# Altium integrated library Actel ACT 2.IntLib: 111 symbols (part 2 of 7)
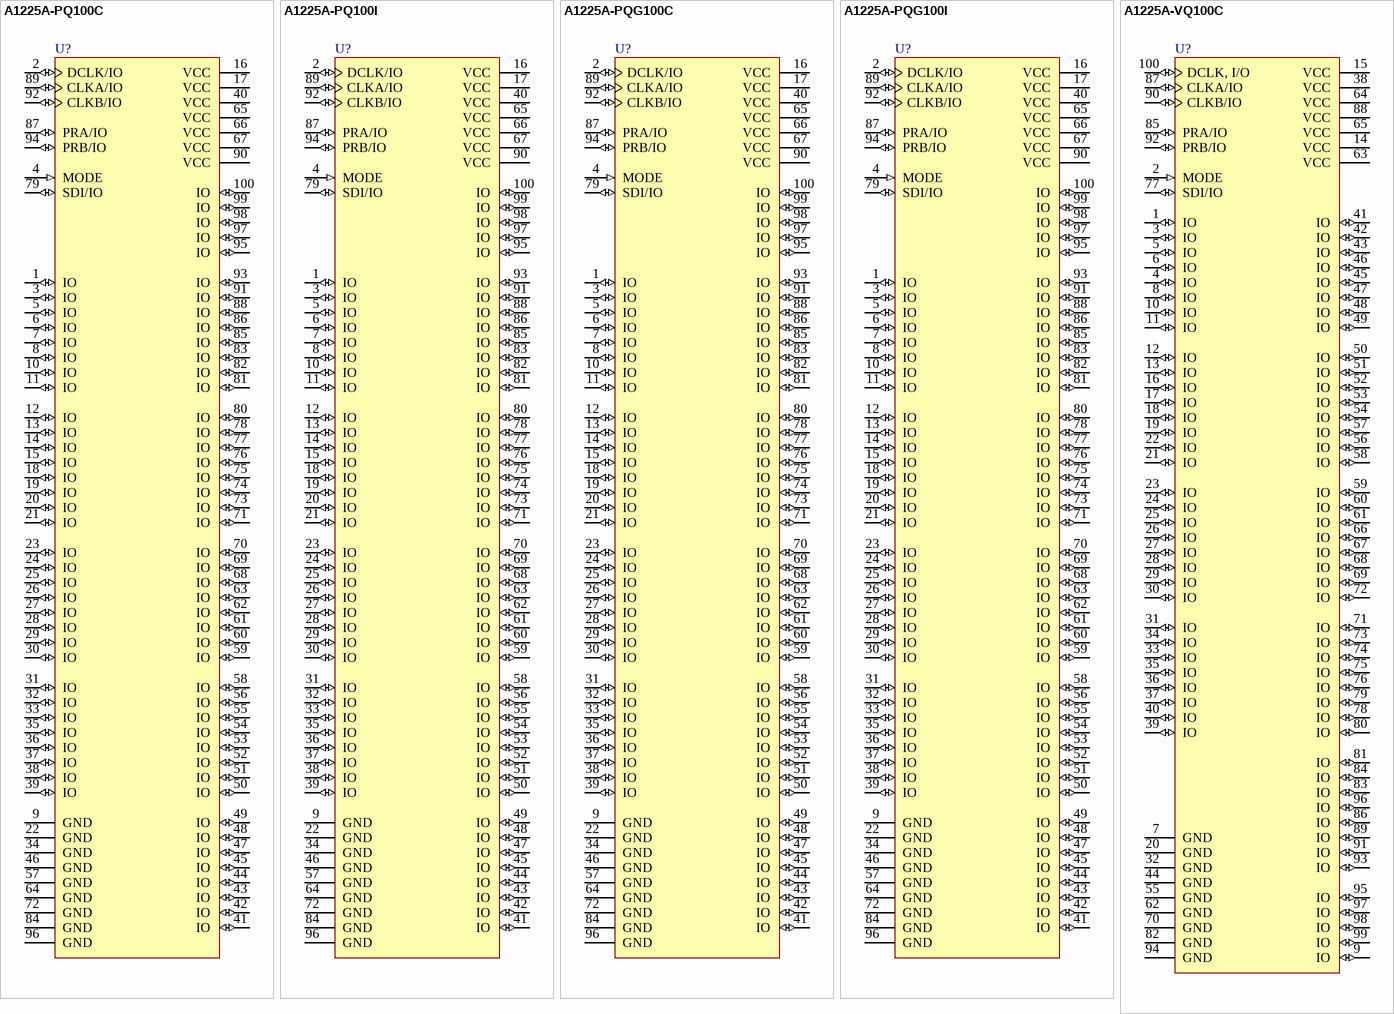
[diagram p64: symbols A1225A-PQ100C to A1225A-VQ100C]

## A1225A-PQ100I
designator U?
ACT 2 Series 5V FPGA, 83 User I/Os, 100 pin PQFP, Standard Speed Grade, Industrial Grade; Published: 24-Nov-2000; LatestRevisionDate: 13-Apr-2006; LatestRevisionNote: IPC-7351 Footprint Added.; DatasheetVersion: v4.0.1, Dec-2000; PackageVersion: ver11.2, Nov-2009; PackageReference: PQ100; Publisher: Altium Limited; PackageDescription: 100-Pin Plastic Quad Flat Pack Rectangular Package (PQ100); Code_JEDEC: MS-022-GC-1; Code_IPC: QFP65P1720X2320-100; ComponentLink1Description: ACT 2 DataSheet; ComponentLink1URL: http://www.actel.com/documents/ACT2_DS.pdf; ComponentLink2Description: Package Mechanical Drawings; ComponentLink2URL: http://www.actel.com/documents/PckgMechDrwngs.pdf; ComponentLink3Description: ACT Documents; ComponentLink3URL: http://www.actel.com/products/legacy/default.aspx#docs; ComponentLink4Description: Actel.com Home; ComponentLink4URL: http://www.actel.com/
footprint PQ100_N (QFP, 100-Leads, Body 20x14mm, Pitch 0.65mm, IPC Medium Density)
footprint PQ100_L (QFP, 100-Leads, Body 20x14mm, Pitch 0.65mm, IPC High Density)
footprint PQ100_M (QFP, 100-Leads, Body 20x14mm, Pitch 0.65mm, IPC Low Density)
pins: 1 IO (io), 2 DCLK/IO (io), 3 IO (io), 4 MODE (in), 5 IO (io), 6 IO (io), 7 IO (io), 8 IO (io), 9 GND (power), 10 IO (io), 11 IO (io), 12 IO (io), 13 IO (io), 14 IO (io), 15 IO (io), 16 VCC (power), 17 VCC (power), 18 IO (io), 19 IO (io), 20 IO (io), 21 IO (io), 22 GND (power), 23 IO (io), 24 IO (io), 25 IO (io), 26 IO (io), 27 IO (io), 28 IO (io), 29 IO (io), 30 IO (io), 31 IO (io), 32 IO (io), 33 IO (io), 34 GND (power), 35 IO (io), 36 IO (io), 37 IO (io), 38 IO (io), 39 IO (io), 40 VCC (power), 41 IO (io), 42 IO (io), 43 IO (io), 44 IO (io), 45 IO (io), 46 GND (power), 47 IO (io), 48 IO (io), 49 IO (io), 50 IO (io), 51 IO (io), 52 IO (io), 53 IO (io), 54 IO (io), 55 IO (io), 56 IO (io), 57 GND (power), 58 IO (io), 59 IO (io), 60 IO (io), 61 IO (io), 62 IO (io), 63 IO (io), 64 GND (power), 65 VCC (power), 66 VCC (power), 67 VCC (power), 68 IO (io), 69 IO (io), 70 IO (io), 71 IO (io), 72 GND (power), 73 IO (io), 74 IO (io), 75 IO (io), 76 IO (io), 77 IO (io), 78 IO (io), 79 SDI/IO (io), 80 IO (io), 81 IO (io), 82 IO (io), 83 IO (io), 84 GND (power), 85 IO (io), 86 IO (io), 87 PRA/IO (io), 88 IO (io), 89 CLKA/IO (io), 90 VCC (power), 91 IO (io), 92 CLKB/IO (io), 93 IO (io), 94 PRB/IO (io), 95 IO (io), 96 GND (power), 97 IO (io), 98 IO (io), 99 IO (io), 100 IO (io)

## A1225A-PQG100C
designator U?
ACT 2 Series 5V FPGA, 83 User I/Os, 100 pin PQFP, Standard Speed Grade, Commercial Grade, Pb-Free; Published: 11-Dec-2009; DatasheetVersion: v4.0.1, Dec-2000; PackageVersion: ver11.2, Nov-2009; PackageReference: PQ100; Publisher: Altium Limited; PackageDescription: 100-Pin Plastic Quad Flat Pack Rectangular Package (PQ100); Code_JEDEC: MS-022-GC-1; Code_IPC: QFP65P1720X2320-100; ComponentLink1Description: ACT 2 DataSheet; ComponentLink1URL: http://www.actel.com/documents/ACT2_DS.pdf; ComponentLink2Description: Package Mechanical Drawings; ComponentLink2URL: http://www.actel.com/documents/PckgMechDrwngs.pdf; ComponentLink3Description: ACT Documents; ComponentLink3URL: http://www.actel.com/products/legacy/default.aspx#docs; ComponentLink4Description: Actel.com Home; ComponentLink4URL: http://www.actel.com/
footprint PQ100_N (QFP, 100-Leads, Body 20x14mm, Pitch 0.65mm, IPC Medium Density)
footprint PQ100_L (QFP, 100-Leads, Body 20x14mm, Pitch 0.65mm, IPC High Density)
footprint PQ100_M (QFP, 100-Leads, Body 20x14mm, Pitch 0.65mm, IPC Low Density)
pins: 1 IO (io), 2 DCLK/IO (io), 3 IO (io), 4 MODE (in), 5 IO (io), 6 IO (io), 7 IO (io), 8 IO (io), 9 GND (power), 10 IO (io), 11 IO (io), 12 IO (io), 13 IO (io), 14 IO (io), 15 IO (io), 16 VCC (power), 17 VCC (power), 18 IO (io), 19 IO (io), 20 IO (io), 21 IO (io), 22 GND (power), 23 IO (io), 24 IO (io), 25 IO (io), 26 IO (io), 27 IO (io), 28 IO (io), 29 IO (io), 30 IO (io), 31 IO (io), 32 IO (io), 33 IO (io), 34 GND (power), 35 IO (io), 36 IO (io), 37 IO (io), 38 IO (io), 39 IO (io), 40 VCC (power), 41 IO (io), 42 IO (io), 43 IO (io), 44 IO (io), 45 IO (io), 46 GND (power), 47 IO (io), 48 IO (io), 49 IO (io), 50 IO (io), 51 IO (io), 52 IO (io), 53 IO (io), 54 IO (io), 55 IO (io), 56 IO (io), 57 GND (power), 58 IO (io), 59 IO (io), 60 IO (io), 61 IO (io), 62 IO (io), 63 IO (io), 64 GND (power), 65 VCC (power), 66 VCC (power), 67 VCC (power), 68 IO (io), 69 IO (io), 70 IO (io), 71 IO (io), 72 GND (power), 73 IO (io), 74 IO (io), 75 IO (io), 76 IO (io), 77 IO (io), 78 IO (io), 79 SDI/IO (io), 80 IO (io), 81 IO (io), 82 IO (io), 83 IO (io), 84 GND (power), 85 IO (io), 86 IO (io), 87 PRA/IO (io), 88 IO (io), 89 CLKA/IO (io), 90 VCC (power), 91 IO (io), 92 CLKB/IO (io), 93 IO (io), 94 PRB/IO (io), 95 IO (io), 96 GND (power), 97 IO (io), 98 IO (io), 99 IO (io), 100 IO (io)

## A1225A-PQG100I
designator U?
ACT 2 Series 5V FPGA, 83 User I/Os, 100 pin PQFP, Standard Speed Grade, Industrial Grade, Pb-Free; Published: 11-Dec-2009; DatasheetVersion: v4.0.1, Dec-2000; PackageVersion: ver11.2, Nov-2009; PackageReference: PQ100; Publisher: Altium Limited; PackageDescription: 100-Pin Plastic Quad Flat Pack Rectangular Package (PQ100); Code_JEDEC: MS-022-GC-1; Code_IPC: QFP65P1720X2320-100; ComponentLink1Description: ACT 2 DataSheet; ComponentLink1URL: http://www.actel.com/documents/ACT2_DS.pdf; ComponentLink2Description: Package Mechanical Drawings; ComponentLink2URL: http://www.actel.com/documents/PckgMechDrwngs.pdf; ComponentLink3Description: ACT Documents; ComponentLink3URL: http://www.actel.com/products/legacy/default.aspx#docs; ComponentLink4Description: Actel.com Home; ComponentLink4URL: http://www.actel.com/
footprint PQ100_N (QFP, 100-Leads, Body 20x14mm, Pitch 0.65mm, IPC Medium Density)
footprint PQ100_L (QFP, 100-Leads, Body 20x14mm, Pitch 0.65mm, IPC High Density)
footprint PQ100_M (QFP, 100-Leads, Body 20x14mm, Pitch 0.65mm, IPC Low Density)
pins: 1 IO (io), 2 DCLK/IO (io), 3 IO (io), 4 MODE (in), 5 IO (io), 6 IO (io), 7 IO (io), 8 IO (io), 9 GND (power), 10 IO (io), 11 IO (io), 12 IO (io), 13 IO (io), 14 IO (io), 15 IO (io), 16 VCC (power), 17 VCC (power), 18 IO (io), 19 IO (io), 20 IO (io), 21 IO (io), 22 GND (power), 23 IO (io), 24 IO (io), 25 IO (io), 26 IO (io), 27 IO (io), 28 IO (io), 29 IO (io), 30 IO (io), 31 IO (io), 32 IO (io), 33 IO (io), 34 GND (power), 35 IO (io), 36 IO (io), 37 IO (io), 38 IO (io), 39 IO (io), 40 VCC (power), 41 IO (io), 42 IO (io), 43 IO (io), 44 IO (io), 45 IO (io), 46 GND (power), 47 IO (io), 48 IO (io), 49 IO (io), 50 IO (io), 51 IO (io), 52 IO (io), 53 IO (io), 54 IO (io), 55 IO (io), 56 IO (io), 57 GND (power), 58 IO (io), 59 IO (io), 60 IO (io), 61 IO (io), 62 IO (io), 63 IO (io), 64 GND (power), 65 VCC (power), 66 VCC (power), 67 VCC (power), 68 IO (io), 69 IO (io), 70 IO (io), 71 IO (io), 72 GND (power), 73 IO (io), 74 IO (io), 75 IO (io), 76 IO (io), 77 IO (io), 78 IO (io), 79 SDI/IO (io), 80 IO (io), 81 IO (io), 82 IO (io), 83 IO (io), 84 GND (power), 85 IO (io), 86 IO (io), 87 PRA/IO (io), 88 IO (io), 89 CLKA/IO (io), 90 VCC (power), 91 IO (io), 92 CLKB/IO (io), 93 IO (io), 94 PRB/IO (io), 95 IO (io), 96 GND (power), 97 IO (io), 98 IO (io), 99 IO (io), 100 IO (io)

## A1225A-VQ100C
designator U?
ACT 2 Series 5V FPGA, 83 User I/Os, 100 pin Very Thin QFP, Standard Speed Grade, Commercial Grade; Published: 24-Nov-2000; LatestRevisionDate: 13-Apr-2006; LatestRevisionNote: IPC-7351 Footprint Added.; DatasheetVersion: v4.0.1, Dec-2000; PackageVersion: ver11.2, Nov-2009; PackageReference: VQ100; Publisher: Altium Limited; PackageDescription: 100-Pin Plastic Quad Flat Pack (VQ100); Code_JEDEC: MS-026-AED; ComponentLink1Description: ACT 2 DataSheet; ComponentLink1URL: http://www.actel.com/documents/ACT2_DS.pdf; ComponentLink2Description: Package Mechanical Drawings; ComponentLink2URL: http://www.actel.com/documents/PckgMechDrwngs.pdf; ComponentLink3Description: ACT Documents; ComponentLink3URL: http://www.actel.com/products/legacy/default.aspx#docs; ComponentLink4Description: Actel.com Home; ComponentLink4URL: http://www.actel.com/
footprint VQ100_N (Thin QFP, 100-Leads, Body 14x14mm, Pitch 0.5mm, IPC Medium Density)
footprint VQ100_L (Thin QFP, 100-Leads, Body 14x14mm, Pitch 0.5mm, IPC High Density)
footprint VQ100_M (Thin QFP, 100-Leads, Body 14x14mm, Pitch 0.5mm, IPC Low Density)
pins: 1 IO (io), 2 MODE (in), 3 IO (io), 4 IO (io), 5 IO (io), 6 IO (io), 7 GND (power), 8 IO (io), 9 IO (io), 10 IO (io), 11 IO (io), 12 IO (io), 13 IO (io), 14 VCC (power), 15 VCC (power), 16 IO (io), 17 IO (io), 18 IO (io), 19 IO (io), 20 GND (power), 21 IO (io), 22 IO (io), 23 IO (io), 24 IO (io), 25 IO (io), 26 IO (io), 27 IO (io), 28 IO (io), 29 IO (io), 30 IO (io), 31 IO (io), 32 GND (power), 33 IO (io), 34 IO (io), 35 IO (io), 36 IO (io), 37 IO (io), 38 VCC (power), 39 IO (io), 40 IO (io), 41 IO (io), 42 IO (io), 43 IO (io), 44 GND (power), 45 IO (io), 46 IO (io), 47 IO (io), 48 IO (io), 49 IO (io), 50 IO (io), 51 IO (io), 52 IO (io), 53 IO (io), 54 IO (io), 55 GND (power), 56 IO (io), 57 IO (io), 58 IO (io), 59 IO (io), 60 IO (io), 61 IO (io), 62 GND (power), 63 VCC (power), 64 VCC (power), 65 VCC (power), 66 IO (io), 67 IO (io), 68 IO (io), 69 IO (io), 70 GND (power), 71 IO (io), 72 IO (io), 73 IO (io), 74 IO (io), 75 IO (io), 76 IO (io), 77 SDI/IO (io), 78 IO (io), 79 IO (io), 80 IO (io), 81 IO (io), 82 GND (power), 83 IO (io), 84 IO (io), 85 PRA/IO (io), 86 IO (io), 87 CLKA/IO (io), 88 VCC (power), 89 IO (io), 90 CLKB/IO (io), 91 IO (io), 92 PRB/IO (io), 93 IO (io), 94 GND (power), 95 IO (io), 96 IO (io), 97 IO (io), 98 IO (io), 99 IO (io), 100 DCLK, I/O (io)

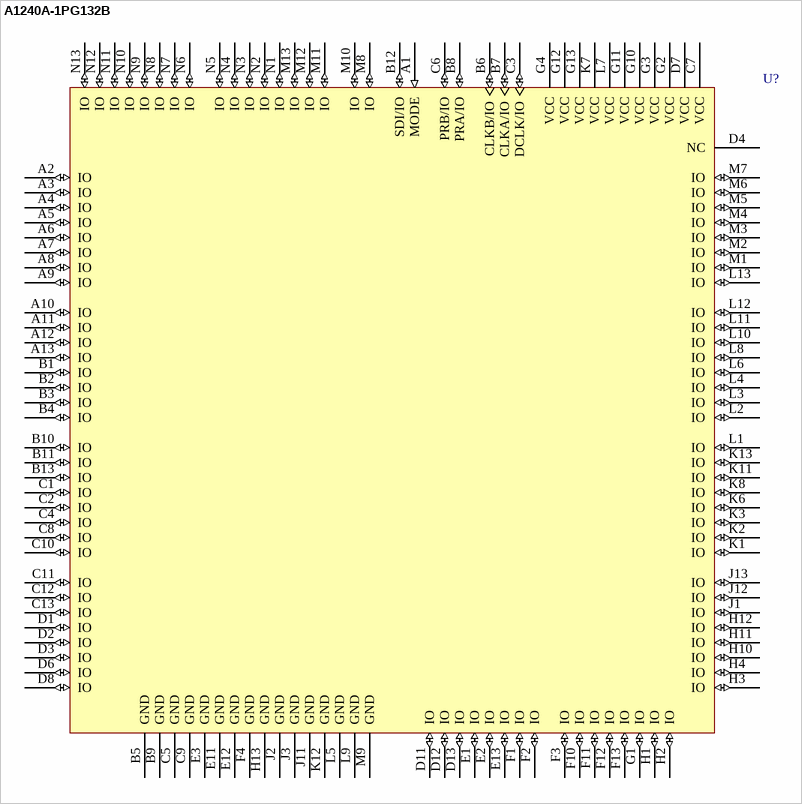
[diagram p5: symbol A1240A-1PG132B]

## A1240A-1PG132B
designator U?
ACT 2 Series 5V FPGA, 104 User I/Os, 132 pin CPGA, Speed Grade 1, MIL-STD-883; Published: 24-Nov-2000; LatestRevisionDate: 04-Mar-2005; LatestRevisionNote: Stylized 3D Model Added.; DatasheetVersion: v4.0.1, Dec-2000; PackageVersion: ver11.2, Nov-2009; PackageReference: PG132; Publisher: Altium Limited; PackageDescription: 132-Pin Ceramic Pin Grid Array (PG132); ComponentLink1Description: ACT 2 DataSheet; ComponentLink1URL: http://www.actel.com/documents/ACT2_DS.pdf; ComponentLink2Description: Package Mechanical Drawings; ComponentLink2URL: http://www.actel.com/documents/PckgMechDrwngs.pdf; ComponentLink3Description: ACT Documents; ComponentLink3URL: http://www.actel.com/products/legacy/default.aspx#docs; ComponentLink4Description: Actel.com Home; ComponentLink4URL: http://www.actel.com/
footprint PG132 (PGA, 133-Leads, Body 34.5x34.5mm, Pitch 2.54mm)
pins: A1 MODE (in), A2 IO (io), A3 IO (io), A4 IO (io), A5 IO (io), A6 IO (io), A7 IO (io), A8 IO (io), A9 IO (io), A10 IO (io), A11 IO (io), A12 IO (io), A13 IO (io), B1 IO (io), B2 IO (io), B3 IO (io), B4 IO (io), B5 GND (power), B6 CLKB/IO (io), B7 CLKA/IO (io), B8 PRA/IO (io), B9 GND (power), B10 IO (io), B11 IO (io), B12 SDI/IO (io), B13 IO (io), C1 IO (io), C2 IO (io), C3 DCLK/IO (io), C4 IO (io), C5 GND (power), C6 PRB/IO (io), C7 VCC (power), C8 IO (io), C9 GND (power), C10 IO (io), C11 IO (io), C12 IO (io), C13 IO (io), D1 IO (io), D2 IO (io), D3 IO (io), D4 NC, D6 IO (io), D7 VCC (power), D8 IO (io), D11 IO (io), D12 IO (io), D13 IO (io), E1 IO (io), E2 IO (io), E3 GND (power), E11 GND (power), E12 GND (power), E13 IO (io), F1 IO (io), F2 IO (io), F3 IO (io), F4 GND (power), F10 IO (io), F11 IO (io), F12 IO (io), F13 IO (io), G1 IO (io), G2 VCC (power), G3 VCC (power), G4 VCC (power), G10 VCC (power), G11 VCC (power), G12 VCC (power), G13 VCC (power), H1 IO (io), H2 IO (io), H3 IO (io), H4 IO (io), H10 IO (io), H11 IO (io), H12 IO (io), H13 GND (power), J1 IO (io), J2 GND (power), J3 GND (power), J11 GND (power), J12 IO (io), J13 IO (io), K1 IO (io), K2 IO (io), K3 IO (io), K6 IO (io), K7 VCC (power), K8 IO (io), K11 IO (io), K12 GND (power), K13 IO (io), L1 IO (io), L2 IO (io), L3 IO (io), L4 IO (io), L5 GND (power), L6 IO (io), L7 VCC (power), L8 IO (io), L9 GND (power), L10 IO (io), L11 IO (io), L12 IO (io), L13 IO (io), M1 IO (io), M2 IO (io), M3 IO (io), M4 IO (io), M5 IO (io), M6 IO (io), M7 IO (io), M8 IO (io), M9 GND (power), M10 IO (io), M11 IO (io), M12 IO (io), M13 IO (io), N1 IO (io), N2 IO (io), N3 IO (io), N4 IO (io), N5 IO (io), N6 IO (io), N7 IO (io), N8 IO (io), N9 IO (io), N10 IO (io), N11 IO (io), N12 IO (io), N13 IO (io)

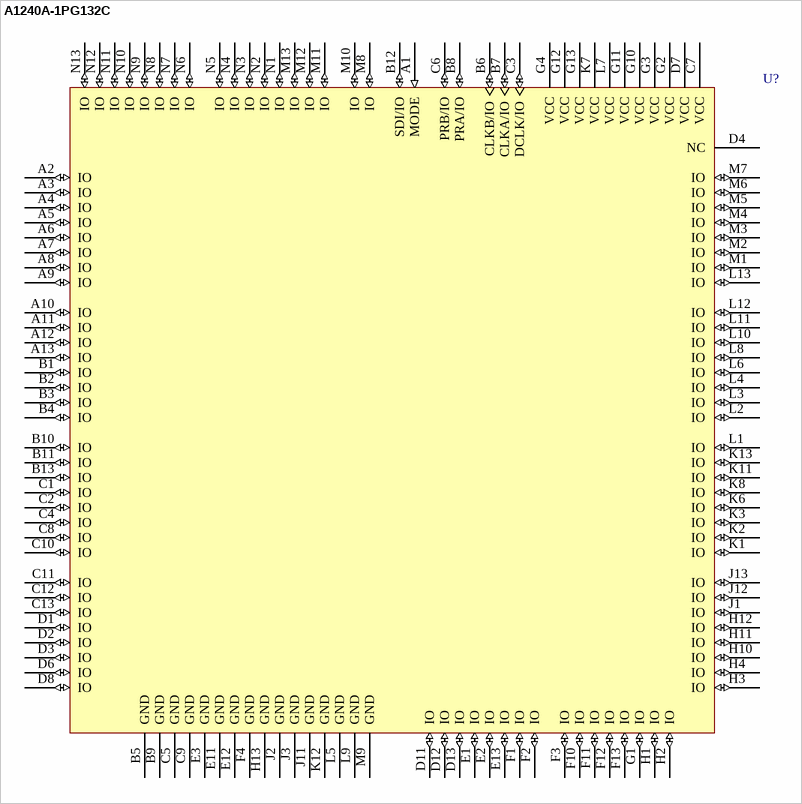
[diagram p6: symbol A1240A-1PG132C]

## A1240A-1PG132C
designator U?
ACT 2 Series 5V FPGA, 104 User I/Os, 132 pin CPGA, Speed Grade 1, Commercial Grade; Published: 24-Nov-2000; LatestRevisionDate: 04-Mar-2005; LatestRevisionNote: Stylized 3D Model Added.; DatasheetVersion: v4.0.1, Dec-2000; PackageVersion: ver11.2, Nov-2009; PackageReference: PG132; Publisher: Altium Limited; PackageDescription: 132-Pin Ceramic Pin Grid Array (PG132); ComponentLink1Description: ACT 2 DataSheet; ComponentLink1URL: http://www.actel.com/documents/ACT2_DS.pdf; ComponentLink2Description: Package Mechanical Drawings; ComponentLink2URL: http://www.actel.com/documents/PckgMechDrwngs.pdf; ComponentLink3Description: ACT Documents; ComponentLink3URL: http://www.actel.com/products/legacy/default.aspx#docs; ComponentLink4Description: Actel.com Home; ComponentLink4URL: http://www.actel.com/
footprint PG132 (PGA, 133-Leads, Body 34.5x34.5mm, Pitch 2.54mm)
pins: A1 MODE (in), A2 IO (io), A3 IO (io), A4 IO (io), A5 IO (io), A6 IO (io), A7 IO (io), A8 IO (io), A9 IO (io), A10 IO (io), A11 IO (io), A12 IO (io), A13 IO (io), B1 IO (io), B2 IO (io), B3 IO (io), B4 IO (io), B5 GND (power), B6 CLKB/IO (io), B7 CLKA/IO (io), B8 PRA/IO (io), B9 GND (power), B10 IO (io), B11 IO (io), B12 SDI/IO (io), B13 IO (io), C1 IO (io), C2 IO (io), C3 DCLK/IO (io), C4 IO (io), C5 GND (power), C6 PRB/IO (io), C7 VCC (power), C8 IO (io), C9 GND (power), C10 IO (io), C11 IO (io), C12 IO (io), C13 IO (io), D1 IO (io), D2 IO (io), D3 IO (io), D4 NC, D6 IO (io), D7 VCC (power), D8 IO (io), D11 IO (io), D12 IO (io), D13 IO (io), E1 IO (io), E2 IO (io), E3 GND (power), E11 GND (power), E12 GND (power), E13 IO (io), F1 IO (io), F2 IO (io), F3 IO (io), F4 GND (power), F10 IO (io), F11 IO (io), F12 IO (io), F13 IO (io), G1 IO (io), G2 VCC (power), G3 VCC (power), G4 VCC (power), G10 VCC (power), G11 VCC (power), G12 VCC (power), G13 VCC (power), H1 IO (io), H2 IO (io), H3 IO (io), H4 IO (io), H10 IO (io), H11 IO (io), H12 IO (io), H13 GND (power), J1 IO (io), J2 GND (power), J3 GND (power), J11 GND (power), J12 IO (io), J13 IO (io), K1 IO (io), K2 IO (io), K3 IO (io), K6 IO (io), K7 VCC (power), K8 IO (io), K11 IO (io), K12 GND (power), K13 IO (io), L1 IO (io), L2 IO (io), L3 IO (io), L4 IO (io), L5 GND (power), L6 IO (io), L7 VCC (power), L8 IO (io), L9 GND (power), L10 IO (io), L11 IO (io), L12 IO (io), L13 IO (io), M1 IO (io), M2 IO (io), M3 IO (io), M4 IO (io), M5 IO (io), M6 IO (io), M7 IO (io), M8 IO (io), M9 GND (power), M10 IO (io), M11 IO (io), M12 IO (io), M13 IO (io), N1 IO (io), N2 IO (io), N3 IO (io), N4 IO (io), N5 IO (io), N6 IO (io), N7 IO (io), N8 IO (io), N9 IO (io), N10 IO (io), N11 IO (io), N12 IO (io), N13 IO (io)

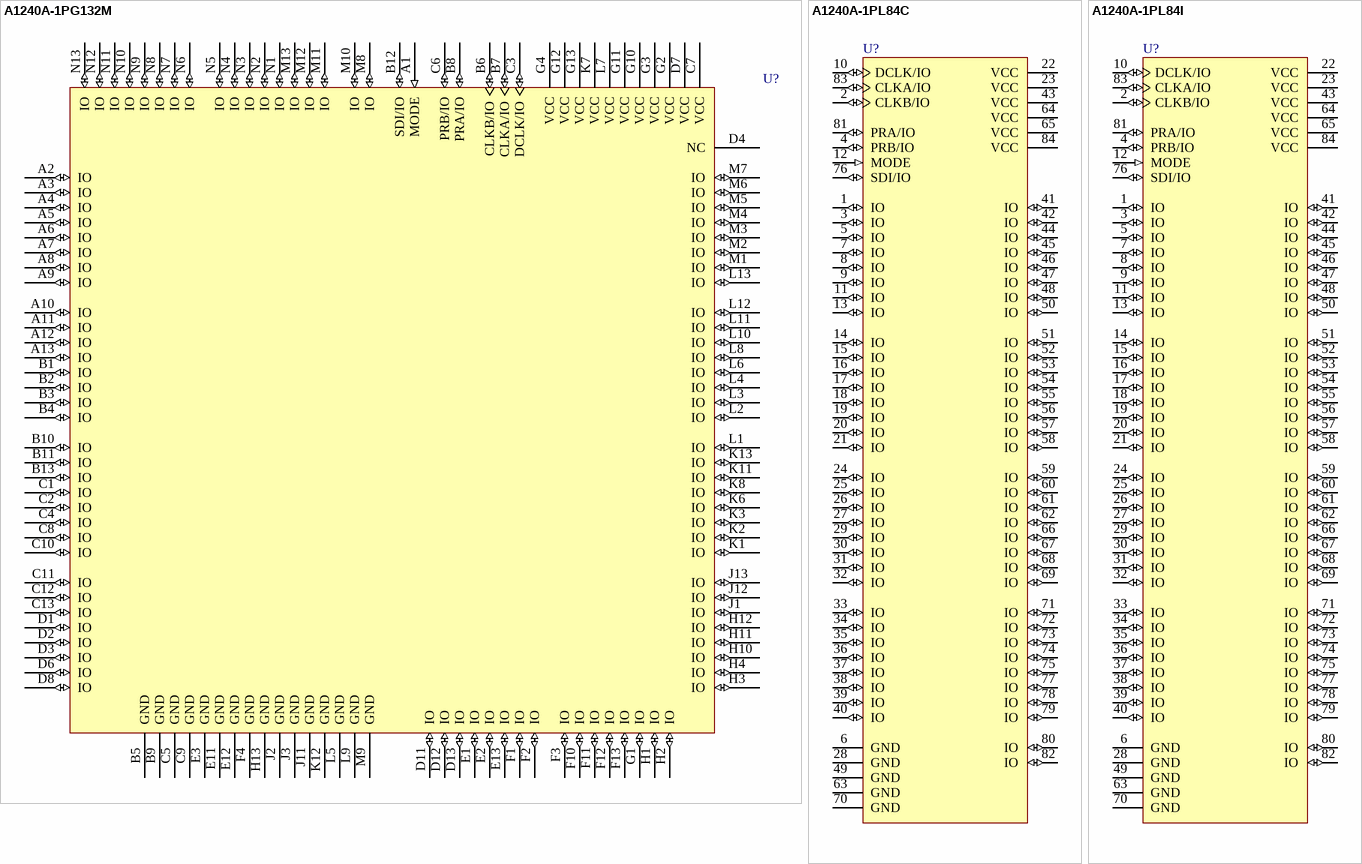
[diagram p7: symbols A1240A-1PG132M to A1240A-1PL84I]

## A1240A-1PG132M
designator U?
ACT 2 Series 5V FPGA, 104 User I/Os, 132 pin CPGA, Speed Grade 1, Military Grade; Published: 24-Nov-2000; LatestRevisionDate: 04-Mar-2005; LatestRevisionNote: Stylized 3D Model Added.; DatasheetVersion: v4.0.1, Dec-2000; PackageVersion: ver11.2, Nov-2009; PackageReference: PG132; Publisher: Altium Limited; PackageDescription: 132-Pin Ceramic Pin Grid Array (PG132); ComponentLink1Description: ACT 2 DataSheet; ComponentLink1URL: http://www.actel.com/documents/ACT2_DS.pdf; ComponentLink2Description: Package Mechanical Drawings; ComponentLink2URL: http://www.actel.com/documents/PckgMechDrwngs.pdf; ComponentLink3Description: ACT Documents; ComponentLink3URL: http://www.actel.com/products/legacy/default.aspx#docs; ComponentLink4Description: Actel.com Home; ComponentLink4URL: http://www.actel.com/
footprint PG132 (PGA, 133-Leads, Body 34.5x34.5mm, Pitch 2.54mm)
pins: A1 MODE (in), A2 IO (io), A3 IO (io), A4 IO (io), A5 IO (io), A6 IO (io), A7 IO (io), A8 IO (io), A9 IO (io), A10 IO (io), A11 IO (io), A12 IO (io), A13 IO (io), B1 IO (io), B2 IO (io), B3 IO (io), B4 IO (io), B5 GND (power), B6 CLKB/IO (io), B7 CLKA/IO (io), B8 PRA/IO (io), B9 GND (power), B10 IO (io), B11 IO (io), B12 SDI/IO (io), B13 IO (io), C1 IO (io), C2 IO (io), C3 DCLK/IO (io), C4 IO (io), C5 GND (power), C6 PRB/IO (io), C7 VCC (power), C8 IO (io), C9 GND (power), C10 IO (io), C11 IO (io), C12 IO (io), C13 IO (io), D1 IO (io), D2 IO (io), D3 IO (io), D4 NC, D6 IO (io), D7 VCC (power), D8 IO (io), D11 IO (io), D12 IO (io), D13 IO (io), E1 IO (io), E2 IO (io), E3 GND (power), E11 GND (power), E12 GND (power), E13 IO (io), F1 IO (io), F2 IO (io), F3 IO (io), F4 GND (power), F10 IO (io), F11 IO (io), F12 IO (io), F13 IO (io), G1 IO (io), G2 VCC (power), G3 VCC (power), G4 VCC (power), G10 VCC (power), G11 VCC (power), G12 VCC (power), G13 VCC (power), H1 IO (io), H2 IO (io), H3 IO (io), H4 IO (io), H10 IO (io), H11 IO (io), H12 IO (io), H13 GND (power), J1 IO (io), J2 GND (power), J3 GND (power), J11 GND (power), J12 IO (io), J13 IO (io), K1 IO (io), K2 IO (io), K3 IO (io), K6 IO (io), K7 VCC (power), K8 IO (io), K11 IO (io), K12 GND (power), K13 IO (io), L1 IO (io), L2 IO (io), L3 IO (io), L4 IO (io), L5 GND (power), L6 IO (io), L7 VCC (power), L8 IO (io), L9 GND (power), L10 IO (io), L11 IO (io), L12 IO (io), L13 IO (io), M1 IO (io), M2 IO (io), M3 IO (io), M4 IO (io), M5 IO (io), M6 IO (io), M7 IO (io), M8 IO (io), M9 GND (power), M10 IO (io), M11 IO (io), M12 IO (io), M13 IO (io), N1 IO (io), N2 IO (io), N3 IO (io), N4 IO (io), N5 IO (io), N6 IO (io), N7 IO (io), N8 IO (io), N9 IO (io), N10 IO (io), N11 IO (io), N12 IO (io), N13 IO (io)

## A1240A-1PL84C
designator U?
ACT 2 Series 5V FPGA, 72 User I/Os, 84 pin PLCC, Speed Grade 1, Commercial Grade; Published: 24-Nov-2000; LatestRevisionDate: 13-Apr-2006; LatestRevisionNote: IPC-7351 Footprint Added.; DatasheetVersion: v4.0.1, Dec-2000; PackageVersion: ver11.2, Nov-2009; PackageReference: PL84; Publisher: Altium Limited; PackageDescription: 84-Pin Plastic Leaded Chip Carrier (PL84); Code_JEDEC: MS-018-AF; Code_IPC: PLCC-84; ComponentLink1Description: ACT 2 DataSheet; ComponentLink1URL: http://www.actel.com/documents/ACT2_DS.pdf; ComponentLink2Description: Package Mechanical Drawings; ComponentLink2URL: http://www.actel.com/documents/PckgMechDrwngs.pdf; ComponentLink3Description: ACT Documents; ComponentLink3URL: http://www.actel.com/products/legacy/default.aspx#docs; ComponentLink4Description: Actel.com Home; ComponentLink4URL: http://www.actel.com/
footprint PL84_N (Leaded Chip Carrier, 84-Leads, Body 29.3x29.3mm, Pitch 1.27mm, IPC Medium Density)
footprint PL84_L (Leaded Chip Carrier, 84-Leads, Body 29.3x29.3mm, Pitch 1.27mm, IPC High Density)
footprint PL84_M (Leaded Chip Carrier, 84-Leads, Body 29.3x29.3mm, Pitch 1.27mm, IPC Low Density)
pins: 1 IO (io), 2 CLKB/IO (io), 3 IO (io), 4 PRB/IO (io), 5 IO (io), 6 GND (power), 7 IO (io), 8 IO (io), 9 IO (io), 10 DCLK/IO (io), 11 IO (io), 12 MODE (in), 13 IO (io), 14 IO (io), 15 IO (io), 16 IO (io), 17 IO (io), 18 IO (io), 19 IO (io), 20 IO (io), 21 IO (io), 22 VCC (power), 23 VCC (power), 24 IO (io), 25 IO (io), 26 IO (io), 27 IO (io), 28 GND (power), 29 IO (io), 30 IO (io), 31 IO (io), 32 IO (io), 33 IO (io), 34 IO (io), 35 IO (io), 36 IO (io), 37 IO (io), 38 IO (io), 39 IO (io), 40 IO (io), 41 IO (io), 42 IO (io), 43 VCC (power), 44 IO (io), 45 IO (io), 46 IO (io), 47 IO (io), 48 IO (io), 49 GND (power), 50 IO (io), 51 IO (io), 52 IO (io), 53 IO (io), 54 IO (io), 55 IO (io), 56 IO (io), 57 IO (io), 58 IO (io), 59 IO (io), 60 IO (io), 61 IO (io), 62 IO (io), 63 GND (power), 64 VCC (power), 65 VCC (power), 66 IO (io), 67 IO (io), 68 IO (io), 69 IO (io), 70 GND (power), 71 IO (io), 72 IO (io), 73 IO (io), 74 IO (io), 75 IO (io), 76 SDI/IO (io), 77 IO (io), 78 IO (io), 79 IO (io), 80 IO (io), 81 PRA/IO (io), 82 IO (io), 83 CLKA/IO (io), 84 VCC (power)

## A1240A-1PL84I
designator U?
ACT 2 Series 5V FPGA, 72 User I/Os, 84 pin PLCC, Speed Grade 1, Industrial Grade; Published: 24-Nov-2000; LatestRevisionDate: 13-Apr-2006; LatestRevisionNote: IPC-7351 Footprint Added.; DatasheetVersion: v4.0.1, Dec-2000; PackageVersion: ver11.2, Nov-2009; PackageReference: PL84; Publisher: Altium Limited; PackageDescription: 84-Pin Plastic Leaded Chip Carrier (PL84); Code_JEDEC: MS-018-AF; Code_IPC: PLCC-84; ComponentLink1Description: ACT 2 DataSheet; ComponentLink1URL: http://www.actel.com/documents/ACT2_DS.pdf; ComponentLink2Description: Package Mechanical Drawings; ComponentLink2URL: http://www.actel.com/documents/PckgMechDrwngs.pdf; ComponentLink3Description: ACT Documents; ComponentLink3URL: http://www.actel.com/products/legacy/default.aspx#docs; ComponentLink4Description: Actel.com Home; ComponentLink4URL: http://www.actel.com/
footprint PL84_N (Leaded Chip Carrier, 84-Leads, Body 29.3x29.3mm, Pitch 1.27mm, IPC Medium Density)
footprint PL84_L (Leaded Chip Carrier, 84-Leads, Body 29.3x29.3mm, Pitch 1.27mm, IPC High Density)
footprint PL84_M (Leaded Chip Carrier, 84-Leads, Body 29.3x29.3mm, Pitch 1.27mm, IPC Low Density)
pins: 1 IO (io), 2 CLKB/IO (io), 3 IO (io), 4 PRB/IO (io), 5 IO (io), 6 GND (power), 7 IO (io), 8 IO (io), 9 IO (io), 10 DCLK/IO (io), 11 IO (io), 12 MODE (in), 13 IO (io), 14 IO (io), 15 IO (io), 16 IO (io), 17 IO (io), 18 IO (io), 19 IO (io), 20 IO (io), 21 IO (io), 22 VCC (power), 23 VCC (power), 24 IO (io), 25 IO (io), 26 IO (io), 27 IO (io), 28 GND (power), 29 IO (io), 30 IO (io), 31 IO (io), 32 IO (io), 33 IO (io), 34 IO (io), 35 IO (io), 36 IO (io), 37 IO (io), 38 IO (io), 39 IO (io), 40 IO (io), 41 IO (io), 42 IO (io), 43 VCC (power), 44 IO (io), 45 IO (io), 46 IO (io), 47 IO (io), 48 IO (io), 49 GND (power), 50 IO (io), 51 IO (io), 52 IO (io), 53 IO (io), 54 IO (io), 55 IO (io), 56 IO (io), 57 IO (io), 58 IO (io), 59 IO (io), 60 IO (io), 61 IO (io), 62 IO (io), 63 GND (power), 64 VCC (power), 65 VCC (power), 66 IO (io), 67 IO (io), 68 IO (io), 69 IO (io), 70 GND (power), 71 IO (io), 72 IO (io), 73 IO (io), 74 IO (io), 75 IO (io), 76 SDI/IO (io), 77 IO (io), 78 IO (io), 79 IO (io), 80 IO (io), 81 PRA/IO (io), 82 IO (io), 83 CLKA/IO (io), 84 VCC (power)

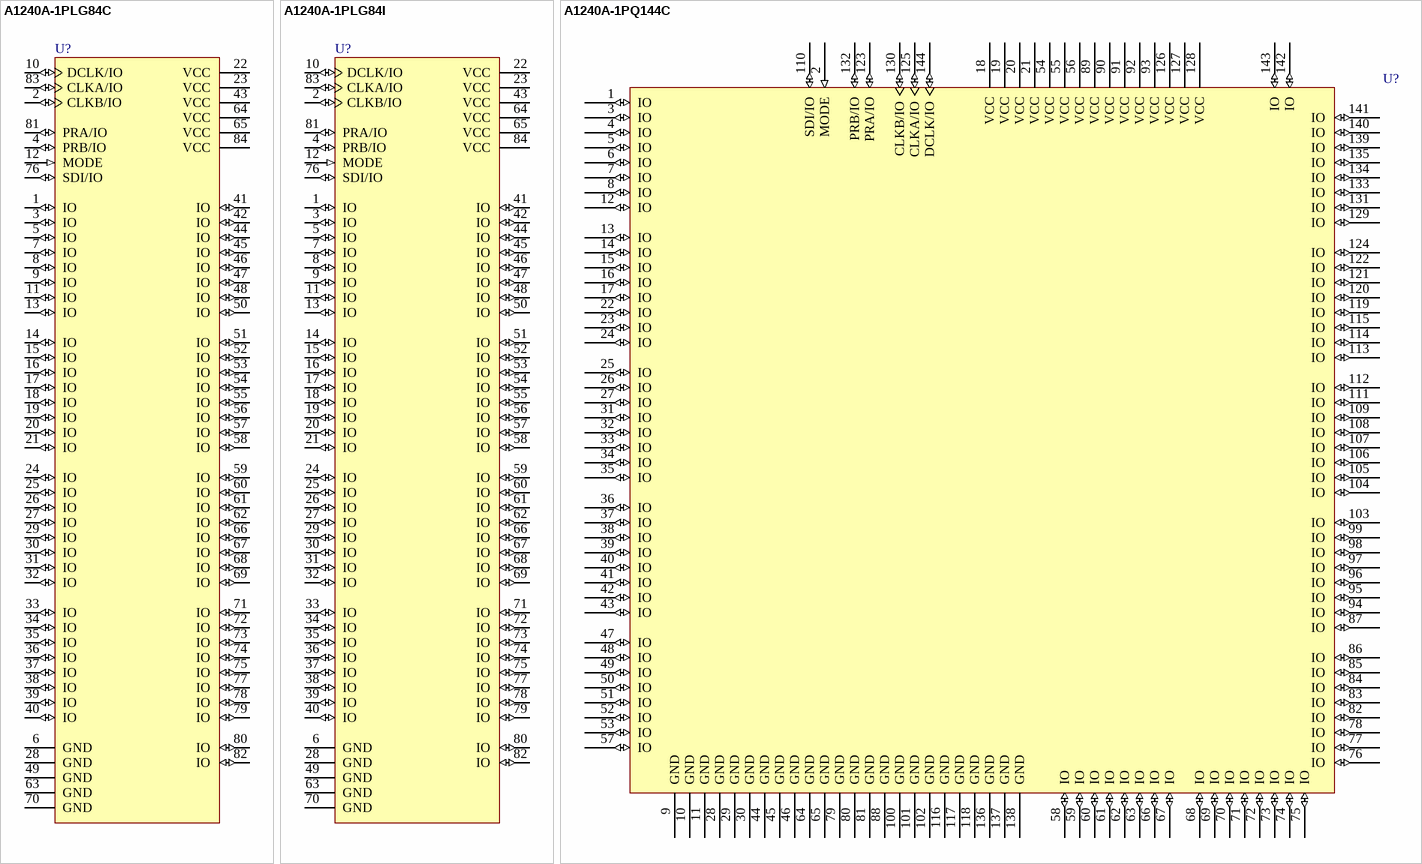
[diagram p8: symbols A1240A-1PLG84C to A1240A-1PQ144C]

## A1240A-1PLG84C
designator U?
ACT 2 Series 5V FPGA, 72 User I/Os, 84 pin PLCC, Speed Grade 1, Commercial Grade, Pb-Free; Published: 11-Dec-2009; DatasheetVersion: v4.0.1, Dec-2000; PackageVersion: ver11.2, Nov-2009; PackageReference: PL84; Publisher: Altium Limited; PackageDescription: 84-Pin Plastic Leaded Chip Carrier (PL84); Code_JEDEC: MS-018-AF; Code_IPC: PLCC-84; ComponentLink1Description: ACT 2 DataSheet; ComponentLink1URL: http://www.actel.com/documents/ACT2_DS.pdf; ComponentLink2Description: Package Mechanical Drawings; ComponentLink2URL: http://www.actel.com/documents/PckgMechDrwngs.pdf; ComponentLink3Description: ACT Documents; ComponentLink3URL: http://www.actel.com/products/legacy/default.aspx#docs; ComponentLink4Description: Actel.com Home; ComponentLink4URL: http://www.actel.com/
footprint PL84_N (Leaded Chip Carrier, 84-Leads, Body 29.3x29.3mm, Pitch 1.27mm, IPC Medium Density)
footprint PL84_L (Leaded Chip Carrier, 84-Leads, Body 29.3x29.3mm, Pitch 1.27mm, IPC High Density)
footprint PL84_M (Leaded Chip Carrier, 84-Leads, Body 29.3x29.3mm, Pitch 1.27mm, IPC Low Density)
pins: 1 IO (io), 2 CLKB/IO (io), 3 IO (io), 4 PRB/IO (io), 5 IO (io), 6 GND (power), 7 IO (io), 8 IO (io), 9 IO (io), 10 DCLK/IO (io), 11 IO (io), 12 MODE (in), 13 IO (io), 14 IO (io), 15 IO (io), 16 IO (io), 17 IO (io), 18 IO (io), 19 IO (io), 20 IO (io), 21 IO (io), 22 VCC (power), 23 VCC (power), 24 IO (io), 25 IO (io), 26 IO (io), 27 IO (io), 28 GND (power), 29 IO (io), 30 IO (io), 31 IO (io), 32 IO (io), 33 IO (io), 34 IO (io), 35 IO (io), 36 IO (io), 37 IO (io), 38 IO (io), 39 IO (io), 40 IO (io), 41 IO (io), 42 IO (io), 43 VCC (power), 44 IO (io), 45 IO (io), 46 IO (io), 47 IO (io), 48 IO (io), 49 GND (power), 50 IO (io), 51 IO (io), 52 IO (io), 53 IO (io), 54 IO (io), 55 IO (io), 56 IO (io), 57 IO (io), 58 IO (io), 59 IO (io), 60 IO (io), 61 IO (io), 62 IO (io), 63 GND (power), 64 VCC (power), 65 VCC (power), 66 IO (io), 67 IO (io), 68 IO (io), 69 IO (io), 70 GND (power), 71 IO (io), 72 IO (io), 73 IO (io), 74 IO (io), 75 IO (io), 76 SDI/IO (io), 77 IO (io), 78 IO (io), 79 IO (io), 80 IO (io), 81 PRA/IO (io), 82 IO (io), 83 CLKA/IO (io), 84 VCC (power)

## A1240A-1PLG84I
designator U?
ACT 2 Series 5V FPGA, 72 User I/Os, 84 pin PLCC, Speed Grade 1, Industrial Grade, Pb-Free; Published: 11-Dec-2009; DatasheetVersion: v4.0.1, Dec-2000; PackageVersion: ver11.2, Nov-2009; PackageReference: PL84; Publisher: Altium Limited; PackageDescription: 84-Pin Plastic Leaded Chip Carrier (PL84); Code_JEDEC: MS-018-AF; Code_IPC: PLCC-84; ComponentLink1Description: ACT 2 DataSheet; ComponentLink1URL: http://www.actel.com/documents/ACT2_DS.pdf; ComponentLink2Description: Package Mechanical Drawings; ComponentLink2URL: http://www.actel.com/documents/PckgMechDrwngs.pdf; ComponentLink3Description: ACT Documents; ComponentLink3URL: http://www.actel.com/products/legacy/default.aspx#docs; ComponentLink4Description: Actel.com Home; ComponentLink4URL: http://www.actel.com/
footprint PL84_N (Leaded Chip Carrier, 84-Leads, Body 29.3x29.3mm, Pitch 1.27mm, IPC Medium Density)
footprint PL84_L (Leaded Chip Carrier, 84-Leads, Body 29.3x29.3mm, Pitch 1.27mm, IPC High Density)
footprint PL84_M (Leaded Chip Carrier, 84-Leads, Body 29.3x29.3mm, Pitch 1.27mm, IPC Low Density)
pins: 1 IO (io), 2 CLKB/IO (io), 3 IO (io), 4 PRB/IO (io), 5 IO (io), 6 GND (power), 7 IO (io), 8 IO (io), 9 IO (io), 10 DCLK/IO (io), 11 IO (io), 12 MODE (in), 13 IO (io), 14 IO (io), 15 IO (io), 16 IO (io), 17 IO (io), 18 IO (io), 19 IO (io), 20 IO (io), 21 IO (io), 22 VCC (power), 23 VCC (power), 24 IO (io), 25 IO (io), 26 IO (io), 27 IO (io), 28 GND (power), 29 IO (io), 30 IO (io), 31 IO (io), 32 IO (io), 33 IO (io), 34 IO (io), 35 IO (io), 36 IO (io), 37 IO (io), 38 IO (io), 39 IO (io), 40 IO (io), 41 IO (io), 42 IO (io), 43 VCC (power), 44 IO (io), 45 IO (io), 46 IO (io), 47 IO (io), 48 IO (io), 49 GND (power), 50 IO (io), 51 IO (io), 52 IO (io), 53 IO (io), 54 IO (io), 55 IO (io), 56 IO (io), 57 IO (io), 58 IO (io), 59 IO (io), 60 IO (io), 61 IO (io), 62 IO (io), 63 GND (power), 64 VCC (power), 65 VCC (power), 66 IO (io), 67 IO (io), 68 IO (io), 69 IO (io), 70 GND (power), 71 IO (io), 72 IO (io), 73 IO (io), 74 IO (io), 75 IO (io), 76 SDI/IO (io), 77 IO (io), 78 IO (io), 79 IO (io), 80 IO (io), 81 PRA/IO (io), 82 IO (io), 83 CLKA/IO (io), 84 VCC (power)

## A1240A-1PQ144C
designator U?
ACT 2 Series 5V FPGA, 104 User I/Os, 144 pin PQFP, Speed Grade 1, Commercial Grade; Published: 24-Nov-2000; LatestRevisionDate: 13-Apr-2006; LatestRevisionNote: IPC-7351 Footprint Added.; DatasheetVersion: v4.0.1, Dec-2000; PackageVersion: ver11.2, Nov-2009; PackageReference: PQ144; Publisher: Altium Limited; PackageDescription: 144-Pin Plastic Quad Flat Pack (PQ144); Code_JEDEC: MS-022-DC-1; Code_IPC: QFP65P3120X3120-144; ComponentLink1Description: ACT 2 DataSheet; ComponentLink1URL: http://www.actel.com/documents/ACT2_DS.pdf; ComponentLink2Description: Package Mechanical Drawings; ComponentLink2URL: http://www.actel.com/documents/PckgMechDrwngs.pdf; ComponentLink3Description: ACT Documents; ComponentLink3URL: http://www.actel.com/products/legacy/default.aspx#docs; ComponentLink4Description: Actel.com Home; ComponentLink4URL: http://www.actel.com/
footprint PQ144_N (QFP, 144-Leads, Body 28x28mm, Pitch 0.65mm, IPC Medium Density)
footprint PQ144_L (QFP, 144-Leads, Body 28x28mm, Pitch 0.65mm, IPC High Density)
footprint PQ144_M (QFP, 144-Leads, Body 28x28mm, Pitch 0.65mm, IPC Low Density)
pins: 1 IO (io), 2 MODE (in), 3 IO (io), 4 IO (io), 5 IO (io), 6 IO (io), 7 IO (io), 8 IO (io), 9 GND (power), 10 GND (power), 11 GND (power), 12 IO (io), 13 IO (io), 14 IO (io), 15 IO (io), 16 IO (io), 17 IO (io), 18 VCC (power), 19 VCC (power), 20 VCC (power), 21 VCC (power), 22 IO (io), 23 IO (io), 24 IO (io), 25 IO (io), 26 IO (io), 27 IO (io), 28 GND (power), 29 GND (power), 30 GND (power), 31 IO (io), 32 IO (io), 33 IO (io), 34 IO (io), 35 IO (io), 36 IO (io), 37 IO (io), 38 IO (io), 39 IO (io), 40 IO (io), 41 IO (io), 42 IO (io), 43 IO (io), 44 GND (power), 45 GND (power), 46 GND (power), 47 IO (io), 48 IO (io), 49 IO (io), 50 IO (io), 51 IO (io), 52 IO (io), 53 IO (io), 54 VCC (power), 55 VCC (power), 56 VCC (power), 57 IO (io), 58 IO (io), 59 IO (io), 60 IO (io), 61 IO (io), 62 IO (io), 63 IO (io), 64 GND (power), 65 GND (power), 66 IO (io), 67 IO (io), 68 IO (io), 69 IO (io), 70 IO (io), 71 IO (io), 72 IO (io), 73 IO (io), 74 IO (io), 75 IO (io), 76 IO (io), 77 IO (io), 78 IO (io), 79 GND (power), 80 GND (power), 81 GND (power), 82 IO (io), 83 IO (io), 84 IO (io), 85 IO (io), 86 IO (io), 87 IO (io), 88 GND (power), 89 VCC (power), 90 VCC (power), 91 VCC (power), 92 VCC (power), 93 VCC (power), 94 IO (io), 95 IO (io), 96 IO (io), 97 IO (io), 98 IO (io), 99 IO (io), 100 GND (power), 101 GND (power), 102 GND (power), 103 IO (io), 104 IO (io), 105 IO (io), 106 IO (io), 107 IO (io), 108 IO (io), 109 IO (io), 110 SDI/IO (io), 111 IO (io), 112 IO (io), 113 IO (io), 114 IO (io), 115 IO (io), 116 GND (power), 117 GND (power), 118 GND (power), 119 IO (io), 120 IO (io), 121 IO (io), 122 IO (io), 123 PRA/IO (io), 124 IO (io), 125 CLKA/IO (io), 126 VCC (power), 127 VCC (power), 128 VCC (power), 129 IO (io), 130 CLKB/IO (io), 131 IO (io), 132 PRB/IO (io), 133 IO (io), 134 IO (io), 135 IO (io), 136 GND (power), 137 GND (power), 138 GND (power), 139 IO (io), 140 IO (io), 141 IO (io), 142 IO (io), 143 IO (io), 144 DCLK/IO (io)

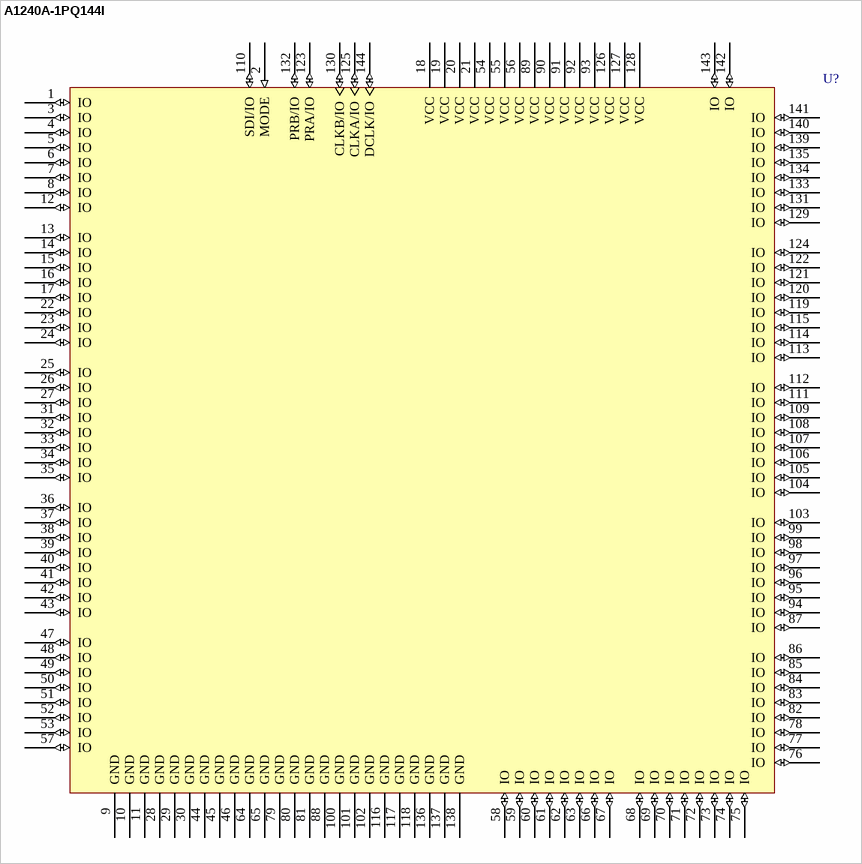
[diagram p9: symbol A1240A-1PQ144I]

## A1240A-1PQ144I
designator U?
ACT 2 Series 5V FPGA, 104 User I/Os, 144 pin PQFP, Speed Grade 1, Industrial Grade; Published: 24-Nov-2000; LatestRevisionDate: 13-Apr-2006; LatestRevisionNote: IPC-7351 Footprint Added.; DatasheetVersion: v4.0.1, Dec-2000; PackageVersion: ver11.2, Nov-2009; PackageReference: PQ144; Publisher: Altium Limited; PackageDescription: 144-Pin Plastic Quad Flat Pack (PQ144); Code_JEDEC: MS-022-DC-1; Code_IPC: QFP65P3120X3120-144; ComponentLink1Description: ACT 2 DataSheet; ComponentLink1URL: http://www.actel.com/documents/ACT2_DS.pdf; ComponentLink2Description: Package Mechanical Drawings; ComponentLink2URL: http://www.actel.com/documents/PckgMechDrwngs.pdf; ComponentLink3Description: ACT Documents; ComponentLink3URL: http://www.actel.com/products/legacy/default.aspx#docs; ComponentLink4Description: Actel.com Home; ComponentLink4URL: http://www.actel.com/
footprint PQ144_N (QFP, 144-Leads, Body 28x28mm, Pitch 0.65mm, IPC Medium Density)
footprint PQ144_L (QFP, 144-Leads, Body 28x28mm, Pitch 0.65mm, IPC High Density)
footprint PQ144_M (QFP, 144-Leads, Body 28x28mm, Pitch 0.65mm, IPC Low Density)
pins: 1 IO (io), 2 MODE (in), 3 IO (io), 4 IO (io), 5 IO (io), 6 IO (io), 7 IO (io), 8 IO (io), 9 GND (power), 10 GND (power), 11 GND (power), 12 IO (io), 13 IO (io), 14 IO (io), 15 IO (io), 16 IO (io), 17 IO (io), 18 VCC (power), 19 VCC (power), 20 VCC (power), 21 VCC (power), 22 IO (io), 23 IO (io), 24 IO (io), 25 IO (io), 26 IO (io), 27 IO (io), 28 GND (power), 29 GND (power), 30 GND (power), 31 IO (io), 32 IO (io), 33 IO (io), 34 IO (io), 35 IO (io), 36 IO (io), 37 IO (io), 38 IO (io), 39 IO (io), 40 IO (io), 41 IO (io), 42 IO (io), 43 IO (io), 44 GND (power), 45 GND (power), 46 GND (power), 47 IO (io), 48 IO (io), 49 IO (io), 50 IO (io), 51 IO (io), 52 IO (io), 53 IO (io), 54 VCC (power), 55 VCC (power), 56 VCC (power), 57 IO (io), 58 IO (io), 59 IO (io), 60 IO (io), 61 IO (io), 62 IO (io), 63 IO (io), 64 GND (power), 65 GND (power), 66 IO (io), 67 IO (io), 68 IO (io), 69 IO (io), 70 IO (io), 71 IO (io), 72 IO (io), 73 IO (io), 74 IO (io), 75 IO (io), 76 IO (io), 77 IO (io), 78 IO (io), 79 GND (power), 80 GND (power), 81 GND (power), 82 IO (io), 83 IO (io), 84 IO (io), 85 IO (io), 86 IO (io), 87 IO (io), 88 GND (power), 89 VCC (power), 90 VCC (power), 91 VCC (power), 92 VCC (power), 93 VCC (power), 94 IO (io), 95 IO (io), 96 IO (io), 97 IO (io), 98 IO (io), 99 IO (io), 100 GND (power), 101 GND (power), 102 GND (power), 103 IO (io), 104 IO (io), 105 IO (io), 106 IO (io), 107 IO (io), 108 IO (io), 109 IO (io), 110 SDI/IO (io), 111 IO (io), 112 IO (io), 113 IO (io), 114 IO (io), 115 IO (io), 116 GND (power), 117 GND (power), 118 GND (power), 119 IO (io), 120 IO (io), 121 IO (io), 122 IO (io), 123 PRA/IO (io), 124 IO (io), 125 CLKA/IO (io), 126 VCC (power), 127 VCC (power), 128 VCC (power), 129 IO (io), 130 CLKB/IO (io), 131 IO (io), 132 PRB/IO (io), 133 IO (io), 134 IO (io), 135 IO (io), 136 GND (power), 137 GND (power), 138 GND (power), 139 IO (io), 140 IO (io), 141 IO (io), 142 IO (io), 143 IO (io), 144 DCLK/IO (io)

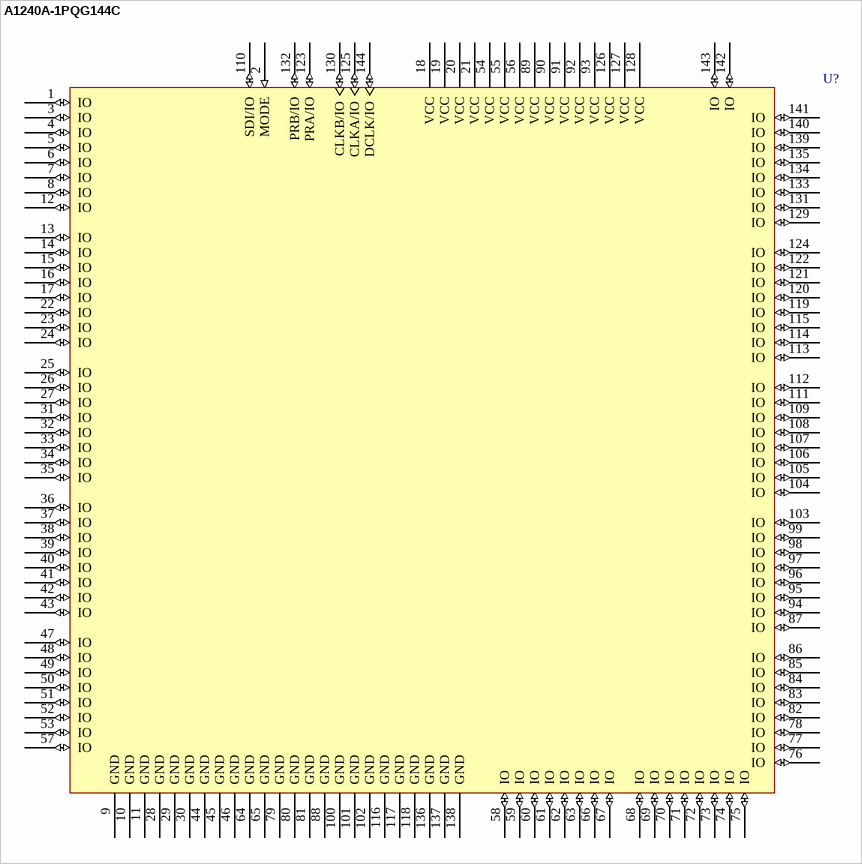
[diagram p10: symbol A1240A-1PQG144C]

## A1240A-1PQG144C
designator U?
ACT 2 Series 5V FPGA, 104 User I/Os, 144 pin PQFP, Speed Grade 1, Commercial Grade, Pb-Free; Published: 11-Dec-2009; DatasheetVersion: v4.0.1, Dec-2000; PackageVersion: ver11.2, Nov-2009; PackageReference: PQ144; Publisher: Altium Limited; PackageDescription: 144-Pin Plastic Quad Flat Pack (PQ144); Code_JEDEC: MS-022-DC-1; Code_IPC: QFP65P3120X3120-144; ComponentLink1Description: ACT 2 DataSheet; ComponentLink1URL: http://www.actel.com/documents/ACT2_DS.pdf; ComponentLink2Description: Package Mechanical Drawings; ComponentLink2URL: http://www.actel.com/documents/PckgMechDrwngs.pdf; ComponentLink3Description: ACT Documents; ComponentLink3URL: http://www.actel.com/products/legacy/default.aspx#docs; ComponentLink4Description: Actel.com Home; ComponentLink4URL: http://www.actel.com/
footprint PQ144_N (QFP, 144-Leads, Body 28x28mm, Pitch 0.65mm, IPC Medium Density)
footprint PQ144_L (QFP, 144-Leads, Body 28x28mm, Pitch 0.65mm, IPC High Density)
footprint PQ144_M (QFP, 144-Leads, Body 28x28mm, Pitch 0.65mm, IPC Low Density)
pins: 1 IO (io), 2 MODE (in), 3 IO (io), 4 IO (io), 5 IO (io), 6 IO (io), 7 IO (io), 8 IO (io), 9 GND (power), 10 GND (power), 11 GND (power), 12 IO (io), 13 IO (io), 14 IO (io), 15 IO (io), 16 IO (io), 17 IO (io), 18 VCC (power), 19 VCC (power), 20 VCC (power), 21 VCC (power), 22 IO (io), 23 IO (io), 24 IO (io), 25 IO (io), 26 IO (io), 27 IO (io), 28 GND (power), 29 GND (power), 30 GND (power), 31 IO (io), 32 IO (io), 33 IO (io), 34 IO (io), 35 IO (io), 36 IO (io), 37 IO (io), 38 IO (io), 39 IO (io), 40 IO (io), 41 IO (io), 42 IO (io), 43 IO (io), 44 GND (power), 45 GND (power), 46 GND (power), 47 IO (io), 48 IO (io), 49 IO (io), 50 IO (io), 51 IO (io), 52 IO (io), 53 IO (io), 54 VCC (power), 55 VCC (power), 56 VCC (power), 57 IO (io), 58 IO (io), 59 IO (io), 60 IO (io), 61 IO (io), 62 IO (io), 63 IO (io), 64 GND (power), 65 GND (power), 66 IO (io), 67 IO (io), 68 IO (io), 69 IO (io), 70 IO (io), 71 IO (io), 72 IO (io), 73 IO (io), 74 IO (io), 75 IO (io), 76 IO (io), 77 IO (io), 78 IO (io), 79 GND (power), 80 GND (power), 81 GND (power), 82 IO (io), 83 IO (io), 84 IO (io), 85 IO (io), 86 IO (io), 87 IO (io), 88 GND (power), 89 VCC (power), 90 VCC (power), 91 VCC (power), 92 VCC (power), 93 VCC (power), 94 IO (io), 95 IO (io), 96 IO (io), 97 IO (io), 98 IO (io), 99 IO (io), 100 GND (power), 101 GND (power), 102 GND (power), 103 IO (io), 104 IO (io), 105 IO (io), 106 IO (io), 107 IO (io), 108 IO (io), 109 IO (io), 110 SDI/IO (io), 111 IO (io), 112 IO (io), 113 IO (io), 114 IO (io), 115 IO (io), 116 GND (power), 117 GND (power), 118 GND (power), 119 IO (io), 120 IO (io), 121 IO (io), 122 IO (io), 123 PRA/IO (io), 124 IO (io), 125 CLKA/IO (io), 126 VCC (power), 127 VCC (power), 128 VCC (power), 129 IO (io), 130 CLKB/IO (io), 131 IO (io), 132 PRB/IO (io), 133 IO (io), 134 IO (io), 135 IO (io), 136 GND (power), 137 GND (power), 138 GND (power), 139 IO (io), 140 IO (io), 141 IO (io), 142 IO (io), 143 IO (io), 144 DCLK/IO (io)

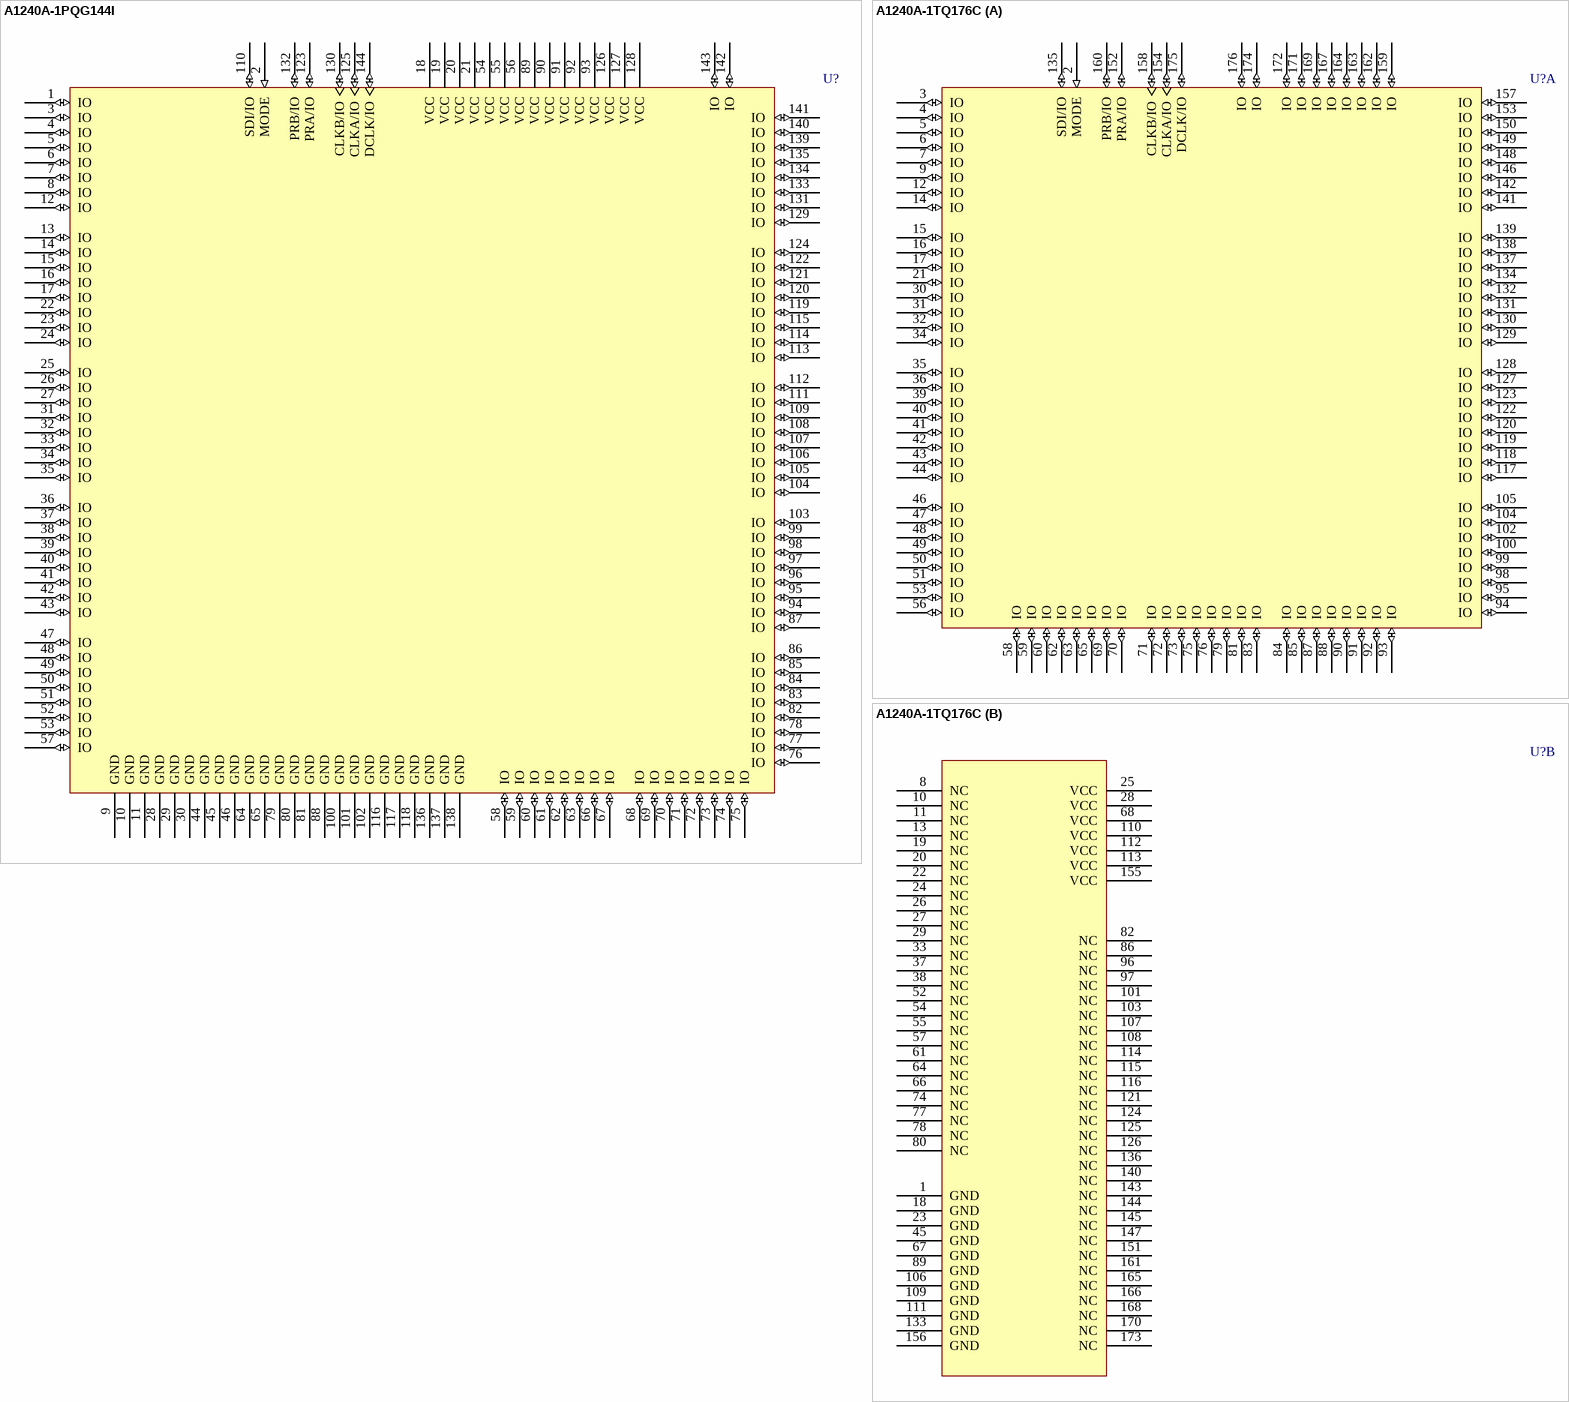
[diagram p11: symbols A1240A-1PQG144I to A1240A-1TQ176C]

## A1240A-1PQG144I
designator U?
ACT 2 Series 5V FPGA, 104 User I/Os, 144 pin PQFP, Speed Grade 1, Industrial Grade, Pb-Free; Published: 11-Dec-2009; DatasheetVersion: v4.0.1, Dec-2000; PackageVersion: ver11.2, Nov-2009; PackageReference: PQ144; Publisher: Altium Limited; PackageDescription: 144-Pin Plastic Quad Flat Pack (PQ144); Code_JEDEC: MS-022-DC-1; Code_IPC: QFP65P3120X3120-144; ComponentLink1Description: ACT 2 DataSheet; ComponentLink1URL: http://www.actel.com/documents/ACT2_DS.pdf; ComponentLink2Description: Package Mechanical Drawings; ComponentLink2URL: http://www.actel.com/documents/PckgMechDrwngs.pdf; ComponentLink3Description: ACT Documents; ComponentLink3URL: http://www.actel.com/products/legacy/default.aspx#docs; ComponentLink4Description: Actel.com Home; ComponentLink4URL: http://www.actel.com/
footprint PQ144_N (QFP, 144-Leads, Body 28x28mm, Pitch 0.65mm, IPC Medium Density)
footprint PQ144_L (QFP, 144-Leads, Body 28x28mm, Pitch 0.65mm, IPC High Density)
footprint PQ144_M (QFP, 144-Leads, Body 28x28mm, Pitch 0.65mm, IPC Low Density)
pins: 1 IO (io), 2 MODE (in), 3 IO (io), 4 IO (io), 5 IO (io), 6 IO (io), 7 IO (io), 8 IO (io), 9 GND (power), 10 GND (power), 11 GND (power), 12 IO (io), 13 IO (io), 14 IO (io), 15 IO (io), 16 IO (io), 17 IO (io), 18 VCC (power), 19 VCC (power), 20 VCC (power), 21 VCC (power), 22 IO (io), 23 IO (io), 24 IO (io), 25 IO (io), 26 IO (io), 27 IO (io), 28 GND (power), 29 GND (power), 30 GND (power), 31 IO (io), 32 IO (io), 33 IO (io), 34 IO (io), 35 IO (io), 36 IO (io), 37 IO (io), 38 IO (io), 39 IO (io), 40 IO (io), 41 IO (io), 42 IO (io), 43 IO (io), 44 GND (power), 45 GND (power), 46 GND (power), 47 IO (io), 48 IO (io), 49 IO (io), 50 IO (io), 51 IO (io), 52 IO (io), 53 IO (io), 54 VCC (power), 55 VCC (power), 56 VCC (power), 57 IO (io), 58 IO (io), 59 IO (io), 60 IO (io), 61 IO (io), 62 IO (io), 63 IO (io), 64 GND (power), 65 GND (power), 66 IO (io), 67 IO (io), 68 IO (io), 69 IO (io), 70 IO (io), 71 IO (io), 72 IO (io), 73 IO (io), 74 IO (io), 75 IO (io), 76 IO (io), 77 IO (io), 78 IO (io), 79 GND (power), 80 GND (power), 81 GND (power), 82 IO (io), 83 IO (io), 84 IO (io), 85 IO (io), 86 IO (io), 87 IO (io), 88 GND (power), 89 VCC (power), 90 VCC (power), 91 VCC (power), 92 VCC (power), 93 VCC (power), 94 IO (io), 95 IO (io), 96 IO (io), 97 IO (io), 98 IO (io), 99 IO (io), 100 GND (power), 101 GND (power), 102 GND (power), 103 IO (io), 104 IO (io), 105 IO (io), 106 IO (io), 107 IO (io), 108 IO (io), 109 IO (io), 110 SDI/IO (io), 111 IO (io), 112 IO (io), 113 IO (io), 114 IO (io), 115 IO (io), 116 GND (power), 117 GND (power), 118 GND (power), 119 IO (io), 120 IO (io), 121 IO (io), 122 IO (io), 123 PRA/IO (io), 124 IO (io), 125 CLKA/IO (io), 126 VCC (power), 127 VCC (power), 128 VCC (power), 129 IO (io), 130 CLKB/IO (io), 131 IO (io), 132 PRB/IO (io), 133 IO (io), 134 IO (io), 135 IO (io), 136 GND (power), 137 GND (power), 138 GND (power), 139 IO (io), 140 IO (io), 141 IO (io), 142 IO (io), 143 IO (io), 144 DCLK/IO (io)

## A1240A-1TQ176C
designator U?
ACT 2 Series 5V FPGA, 104 User I/Os, 176 pin TQFP, Speed Grade 1, Commercial Grade; Published: 24-Nov-2000; LatestRevisionDate: 13-Apr-2006; LatestRevisionNote: IPC-7351 Footprint Added.; DatasheetVersion: v4.0.1, Dec-2000; PackageVersion: ver11.2, Nov-2009; PackageReference: TQ176; Publisher: Altium Limited; PackageDescription: 176-Pin Plastic Quad Flat Pack (TQ176); Code_JEDEC: MS-026-BCA; ComponentLink1Description: ACT 2 DataSheet; ComponentLink1URL: http://www.actel.com/documents/ACT2_DS.pdf; ComponentLink2Description: Package Mechanical Drawings; ComponentLink2URL: http://www.actel.com/documents/PckgMechDrwngs.pdf; ComponentLink3Description: ACT Documents; ComponentLink3URL: http://www.actel.com/products/legacy/default.aspx#docs; ComponentLink4Description: Actel.com Home; ComponentLink4URL: http://www.actel.com/
footprint TQ176_N (Thin QFP, 176-Leads, Body 24x24mm, Pitch 0.5mm, IPC Medium Density)
footprint TQ176_L (Thin QFP, 176-Leads, Body 24x24mm, Pitch 0.5mm, IPC High Density)
footprint TQ176_M (Thin QFP, 176-Leads, Body 24x24mm, Pitch 0.5mm, IPC Low Density)
part A pins: 2 MODE (in), 3 IO (io), 4 IO (io), 5 IO (io), 6 IO (io), 7 IO (io), 9 IO (io), 12 IO (io), 14 IO (io), 15 IO (io), 16 IO (io), 17 IO (io), 21 IO (io), 30 IO (io), 31 IO (io), 32 IO (io), 34 IO (io), 35 IO (io), 36 IO (io), 39 IO (io), 40 IO (io), 41 IO (io), 42 IO (io), 43 IO (io), 44 IO (io), 46 IO (io), 47 IO (io), 48 IO (io), 49 IO (io), 50 IO (io), 51 IO (io), 53 IO (io), 56 IO (io), 58 IO (io), 59 IO (io), 60 IO (io), 62 IO (io), 63 IO (io), 65 IO (io), 69 IO (io), 70 IO (io), 71 IO (io), 72 IO (io), 73 IO (io), 75 IO (io), 76 IO (io), 79 IO (io), 81 IO (io), 83 IO (io), 84 IO (io), 85 IO (io), 87 IO (io), 88 IO (io), 90 IO (io), 91 IO (io), 92 IO (io), 93 IO (io), 94 IO (io), 95 IO (io), 98 IO (io), 99 IO (io), 100 IO (io), 102 IO (io), 104 IO (io), 105 IO (io), 117 IO (io), 118 IO (io), 119 IO (io), 120 IO (io), 122 IO (io), 123 IO (io), 127 IO (io), 128 IO (io), 129 IO (io), 130 IO (io), 131 IO (io), 132 IO (io), 134 IO (io), 135 SDI/IO (io), 137 IO (io), 138 IO (io), 139 IO (io), 141 IO (io), 142 IO (io), 146 IO (io), 148 IO (io), 149 IO (io), 150 IO (io), 152 PRA/IO (io), 153 IO (io), 154 CLKA/IO (io), 157 IO (io), 158 CLKB/IO (io), 159 IO (io), 160 PRB/IO (io), 162 IO (io), 163 IO (io), 164 IO (io), 167 IO (io), 169 IO (io), 171 IO (io), 172 IO (io), 174 IO (io), 175 DCLK/IO (io), 176 IO (io)
part B pins: 1 GND (power), 8 NC, 10 NC, 11 NC, 13 NC, 18 GND (power), 19 NC, 20 NC, 22 NC, 23 GND (power), 24 NC, 25 VCC (power), 26 NC, 27 NC, 28 VCC (power), 29 NC, 33 NC, 37 NC, 38 NC, 45 GND (power), 52 NC, 54 NC, 55 NC, 57 NC, 61 NC, 64 NC, 66 NC, 67 GND (power), 68 VCC (power), 74 NC, 77 NC, 78 NC, 80 NC, 82 NC, 86 NC, 89 GND (power), 96 NC, 97 NC, 101 NC, 103 NC, 106 GND (power), 107 NC, 108 NC, 109 GND (power), 110 VCC (power), 111 GND (power), 112 VCC (power), 113 VCC (power), 114 NC, 115 NC, 116 NC, 121 NC, 124 NC, 125 NC, 126 NC, 133 GND (power), 136 NC, 140 NC, 143 NC, 144 NC, 145 NC, 147 NC, 151 NC, 155 VCC (power), 156 GND (power), 161 NC, 165 NC, 166 NC, 168 NC, 170 NC, 173 NC

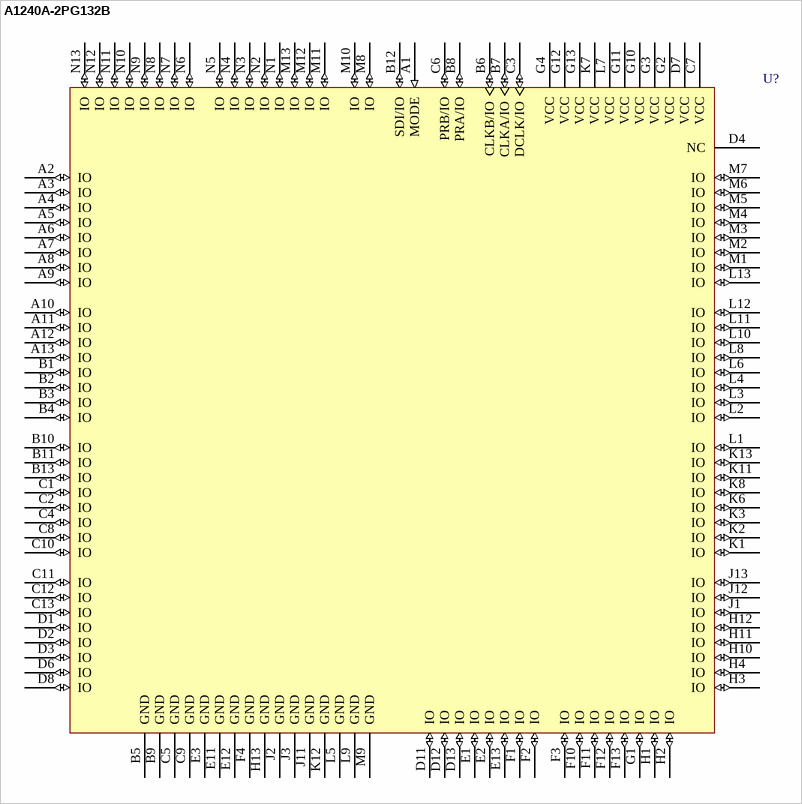
[diagram p12: symbol A1240A-2PG132B]

## A1240A-2PG132B
designator U?
ACT 2 Series 5V FPGA, 104 User I/Os, 132 pin CPGA, Speed Grade 2, MIL-STD-883; ComponentAvailability: Unknown, check status with vendor.; Published: 24-Nov-2000; LatestRevisionDate: 04-Mar-2005; LatestRevisionNote: Stylized 3D Model Added.; DatasheetVersion: v4.0.1, Dec-2000; PackageVersion: ver11.2, Nov-2009; PackageReference: PG132; Publisher: Altium Limited; PackageDescription: 132-Pin Ceramic Pin Grid Array (PG132); ComponentLink1Description: ACT 2 DataSheet; ComponentLink1URL: http://www.actel.com/documents/ACT2_DS.pdf; ComponentLink2Description: Package Mechanical Drawings; ComponentLink2URL: http://www.actel.com/documents/PckgMechDrwngs.pdf; ComponentLink3Description: ACT Documents; ComponentLink3URL: http://www.actel.com/products/legacy/default.aspx#docs; ComponentLink4Description: Actel.com Home; ComponentLink4URL: http://www.actel.com/
footprint PG132 (PGA, 133-Leads, Body 34.5x34.5mm, Pitch 2.54mm)
pins: A1 MODE (in), A2 IO (io), A3 IO (io), A4 IO (io), A5 IO (io), A6 IO (io), A7 IO (io), A8 IO (io), A9 IO (io), A10 IO (io), A11 IO (io), A12 IO (io), A13 IO (io), B1 IO (io), B2 IO (io), B3 IO (io), B4 IO (io), B5 GND (power), B6 CLKB/IO (io), B7 CLKA/IO (io), B8 PRA/IO (io), B9 GND (power), B10 IO (io), B11 IO (io), B12 SDI/IO (io), B13 IO (io), C1 IO (io), C2 IO (io), C3 DCLK/IO (io), C4 IO (io), C5 GND (power), C6 PRB/IO (io), C7 VCC (power), C8 IO (io), C9 GND (power), C10 IO (io), C11 IO (io), C12 IO (io), C13 IO (io), D1 IO (io), D2 IO (io), D3 IO (io), D4 NC, D6 IO (io), D7 VCC (power), D8 IO (io), D11 IO (io), D12 IO (io), D13 IO (io), E1 IO (io), E2 IO (io), E3 GND (power), E11 GND (power), E12 GND (power), E13 IO (io), F1 IO (io), F2 IO (io), F3 IO (io), F4 GND (power), F10 IO (io), F11 IO (io), F12 IO (io), F13 IO (io), G1 IO (io), G2 VCC (power), G3 VCC (power), G4 VCC (power), G10 VCC (power), G11 VCC (power), G12 VCC (power), G13 VCC (power), H1 IO (io), H2 IO (io), H3 IO (io), H4 IO (io), H10 IO (io), H11 IO (io), H12 IO (io), H13 GND (power), J1 IO (io), J2 GND (power), J3 GND (power), J11 GND (power), J12 IO (io), J13 IO (io), K1 IO (io), K2 IO (io), K3 IO (io), K6 IO (io), K7 VCC (power), K8 IO (io), K11 IO (io), K12 GND (power), K13 IO (io), L1 IO (io), L2 IO (io), L3 IO (io), L4 IO (io), L5 GND (power), L6 IO (io), L7 VCC (power), L8 IO (io), L9 GND (power), L10 IO (io), L11 IO (io), L12 IO (io), L13 IO (io), M1 IO (io), M2 IO (io), M3 IO (io), M4 IO (io), M5 IO (io), M6 IO (io), M7 IO (io), M8 IO (io), M9 GND (power), M10 IO (io), M11 IO (io), M12 IO (io), M13 IO (io), N1 IO (io), N2 IO (io), N3 IO (io), N4 IO (io), N5 IO (io), N6 IO (io), N7 IO (io), N8 IO (io), N9 IO (io), N10 IO (io), N11 IO (io), N12 IO (io), N13 IO (io)

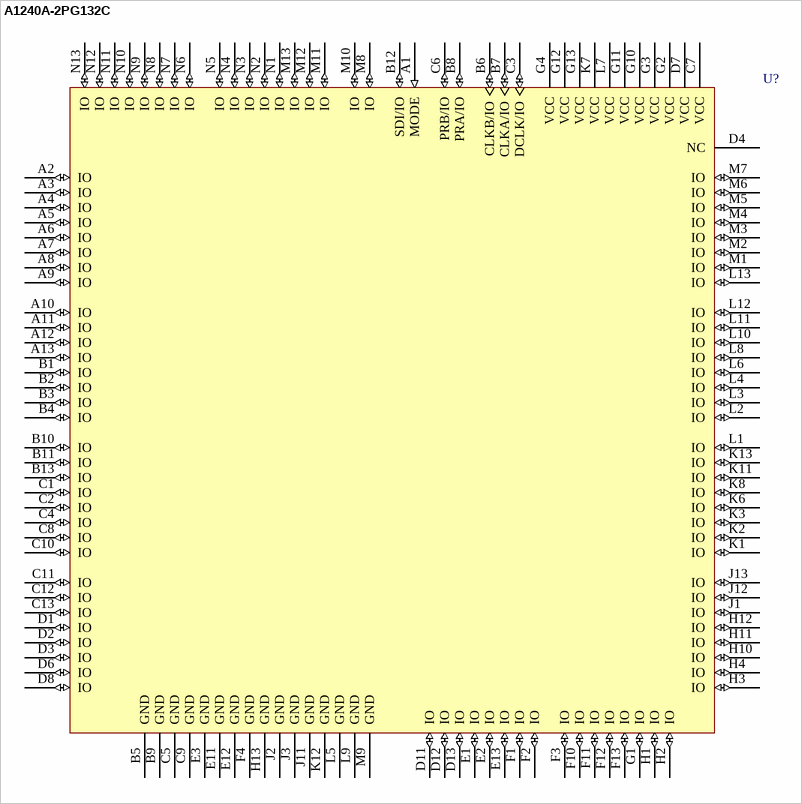
[diagram p13: symbol A1240A-2PG132C]

## A1240A-2PG132C
designator U?
ACT 2 Series 5V FPGA, 104 User I/Os, 132 pin CPGA, Speed Grade 2, Commercial Grade; Published: 24-Nov-2000; LatestRevisionDate: 04-Mar-2005; LatestRevisionNote: Stylized 3D Model Added.; DatasheetVersion: v4.0.1, Dec-2000; PackageVersion: ver11.2, Nov-2009; PackageReference: PG132; Publisher: Altium Limited; PackageDescription: 132-Pin Ceramic Pin Grid Array (PG132); ComponentLink1Description: ACT 2 DataSheet; ComponentLink1URL: http://www.actel.com/documents/ACT2_DS.pdf; ComponentLink2Description: Package Mechanical Drawings; ComponentLink2URL: http://www.actel.com/documents/PckgMechDrwngs.pdf; ComponentLink3Description: ACT Documents; ComponentLink3URL: http://www.actel.com/products/legacy/default.aspx#docs; ComponentLink4Description: Actel.com Home; ComponentLink4URL: http://www.actel.com/
footprint PG132 (PGA, 133-Leads, Body 34.5x34.5mm, Pitch 2.54mm)
pins: A1 MODE (in), A2 IO (io), A3 IO (io), A4 IO (io), A5 IO (io), A6 IO (io), A7 IO (io), A8 IO (io), A9 IO (io), A10 IO (io), A11 IO (io), A12 IO (io), A13 IO (io), B1 IO (io), B2 IO (io), B3 IO (io), B4 IO (io), B5 GND (power), B6 CLKB/IO (io), B7 CLKA/IO (io), B8 PRA/IO (io), B9 GND (power), B10 IO (io), B11 IO (io), B12 SDI/IO (io), B13 IO (io), C1 IO (io), C2 IO (io), C3 DCLK/IO (io), C4 IO (io), C5 GND (power), C6 PRB/IO (io), C7 VCC (power), C8 IO (io), C9 GND (power), C10 IO (io), C11 IO (io), C12 IO (io), C13 IO (io), D1 IO (io), D2 IO (io), D3 IO (io), D4 NC, D6 IO (io), D7 VCC (power), D8 IO (io), D11 IO (io), D12 IO (io), D13 IO (io), E1 IO (io), E2 IO (io), E3 GND (power), E11 GND (power), E12 GND (power), E13 IO (io), F1 IO (io), F2 IO (io), F3 IO (io), F4 GND (power), F10 IO (io), F11 IO (io), F12 IO (io), F13 IO (io), G1 IO (io), G2 VCC (power), G3 VCC (power), G4 VCC (power), G10 VCC (power), G11 VCC (power), G12 VCC (power), G13 VCC (power), H1 IO (io), H2 IO (io), H3 IO (io), H4 IO (io), H10 IO (io), H11 IO (io), H12 IO (io), H13 GND (power), J1 IO (io), J2 GND (power), J3 GND (power), J11 GND (power), J12 IO (io), J13 IO (io), K1 IO (io), K2 IO (io), K3 IO (io), K6 IO (io), K7 VCC (power), K8 IO (io), K11 IO (io), K12 GND (power), K13 IO (io), L1 IO (io), L2 IO (io), L3 IO (io), L4 IO (io), L5 GND (power), L6 IO (io), L7 VCC (power), L8 IO (io), L9 GND (power), L10 IO (io), L11 IO (io), L12 IO (io), L13 IO (io), M1 IO (io), M2 IO (io), M3 IO (io), M4 IO (io), M5 IO (io), M6 IO (io), M7 IO (io), M8 IO (io), M9 GND (power), M10 IO (io), M11 IO (io), M12 IO (io), M13 IO (io), N1 IO (io), N2 IO (io), N3 IO (io), N4 IO (io), N5 IO (io), N6 IO (io), N7 IO (io), N8 IO (io), N9 IO (io), N10 IO (io), N11 IO (io), N12 IO (io), N13 IO (io)

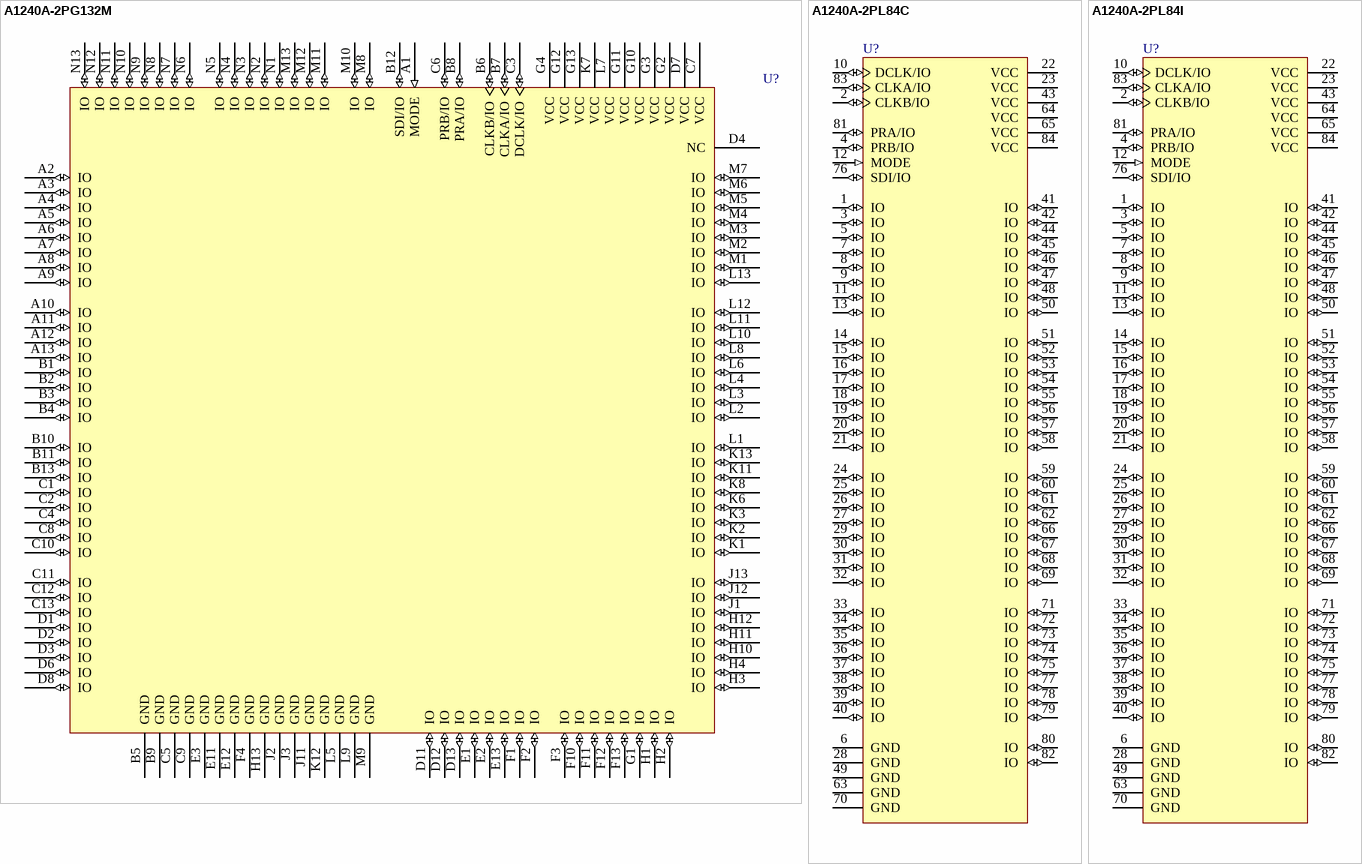
[diagram p14: symbols A1240A-2PG132M to A1240A-2PL84I]